# EAGLE library part 691311400106 (library Terminal_Blocks_Connectors_rev15e)
WR-TBL Serie 3114 - 7.62 mm Close Vertical PCB Header , 6 Pins=>Code : Con_TBL_Pluggable_7.62_PCB_V_691311400106 <http://katalog.we-online.de/media/images/eican/Con_TBL_Pluggable_7.62_PCB_V_6913114001xx_pf2.jpg> Details see: http://katalog.we-online.de/en/em/691_311_400_1xx Created 2014-06-25, Karrer Zheng 2014 (C) Würth Elektronik
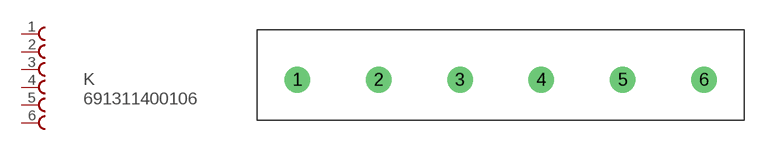
[diagram p181: symbol with the pads of 691311400106; footprint 691311400106]

Designator prefix K

## 691311400106  [691311400106]
1  1  pas
2  2  pas
3  3  pas
4  4  pas
5  5  pas
6  6  pas

## Footprint 691311400106 (pad centres in mm)
WR-TBL Serie 3114 - 7.62 mm Close Vertical PCB Header , 6 Pins
drill 1.6: 1 -15.24,0; 2 -7.62,0; 3 0,0; 4 7.62,0; 5 15.24,0; 6 22.86,0